# Altium footprint library Roatary Switch.PcbLib: 1 footprints
Each footprint in its own frame and in the unit in brackets; x right, y up, seen from the top. Pads: shape width x height; smd on the part's side, far side on the other; paste and mask are expansions set on the pad; w line width, h text height; cw(c..) or ccw(c..) is an arc to the next point about the centre after c.
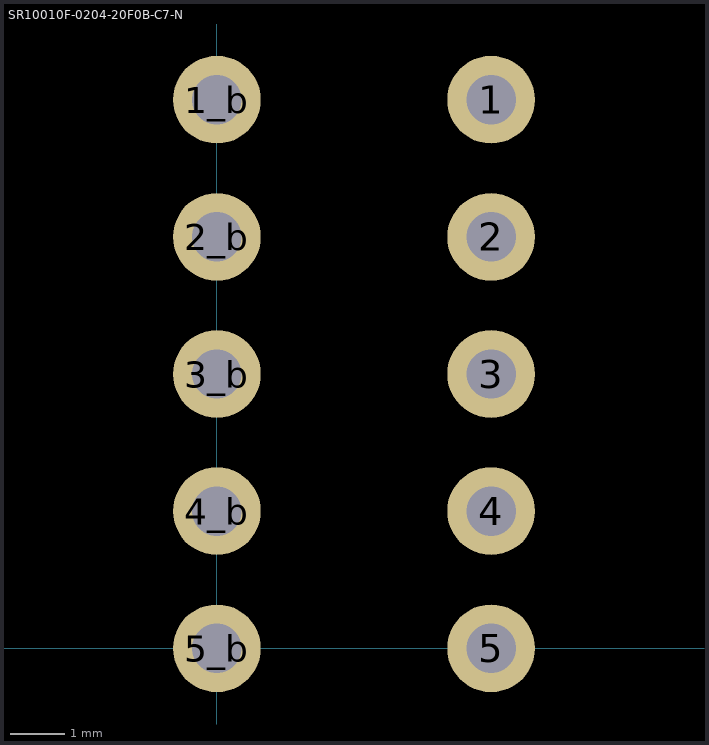
[diagram p0: the footprint, top view; thin cyan lines are the x and y axes]

## SR10010F-0204-20F0B-C7-N [mm]
pads (10):
  round 1.6 hole 0.9: 1(5,10) 1_b(0,10) 2(5,7.5) 2_b(0,7.5) 3(5,5) 3_b(0,5) 4(5,2.5) 4_b(0,2.5) 5(5,0) 5_b(0,0)
3D body: height 9, standoff 3, extent 9.892,2.032 39.892,8.032
3D body: height 11, standoff 0, extent -2.032,-0.762 9.906,10.795